# Altium footprint library CA_PFF-SPE-ACS756.PcbLib: 1 footprints
Each footprint in its own frame and in the unit in brackets; x right, y up, seen from the top. Pads: shape width x height; smd on the part's side, far side on the other; paste and mask are expansions set on the pad; w line width, h text height; cw(c..) or ccw(c..) is an arc to the next point about the centre after c.
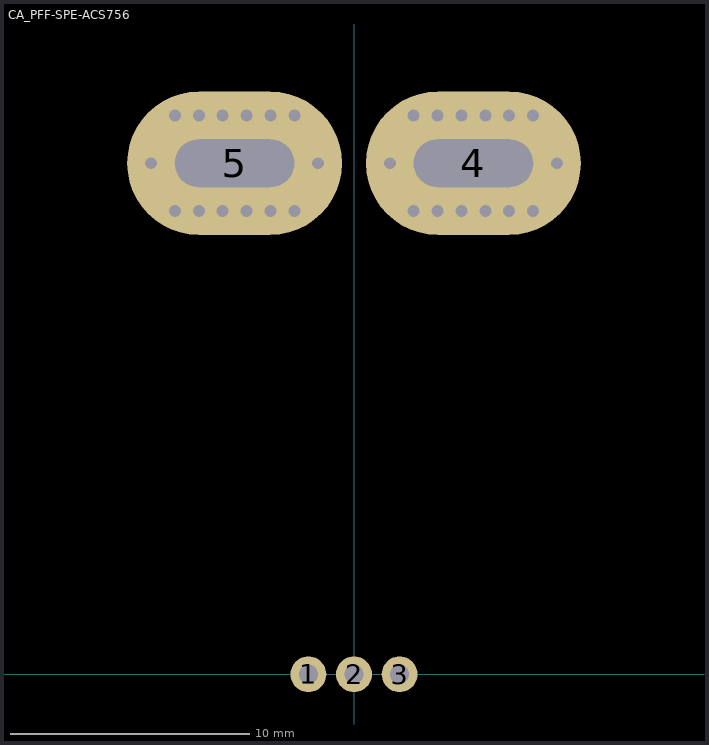
[diagram p0: the footprint, top view; thin cyan lines are the x and y axes]

## CA_PFF-SPE-ACS756 [mm]
height 1.9
pads (5):
  round 1.5 hole 0.8: 1(-1.91,0) 2(0,0) 3(1.91,0)
  rrect100% 9x6 hole 2 slot 5 at 0 deg: 4(5,21.4) 5(-5,21.4)
via -6.5,23.4 diameter 0.6 hole 0.5
via -4.5,23.4 diameter 0.6 hole 0.5
via -2.5,23.4 diameter 0.6 hole 0.5
via -7.5,23.4 diameter 0.6 hole 0.5
via -5.5,23.4 diameter 0.6 hole 0.5
via -3.5,23.4 diameter 0.6 hole 0.5
via -3.5,19.4 diameter 0.6 hole 0.5
via -5.5,19.4 diameter 0.6 hole 0.5
via -7.5,19.4 diameter 0.6 hole 0.5
via -2.5,19.4 diameter 0.6 hole 0.5
via -4.5,19.4 diameter 0.6 hole 0.5
via -6.5,19.4 diameter 0.6 hole 0.5
via -1.5,21.4 diameter 0.6 hole 0.5
via -8.5,21.4 diameter 0.6 hole 0.5
via 1.5,21.4 diameter 0.6 hole 0.5
via 8.5,21.4 diameter 0.6 hole 0.5
via 3.5,19.4 diameter 0.6 hole 0.5
via 5.5,19.4 diameter 0.6 hole 0.5
via 7.5,19.4 diameter 0.6 hole 0.5
via 2.5,19.4 diameter 0.6 hole 0.5
via 4.5,19.4 diameter 0.6 hole 0.5
via 6.5,19.4 diameter 0.6 hole 0.5
via 6.5,23.4 diameter 0.6 hole 0.5
via 4.5,23.4 diameter 0.6 hole 0.5
via 2.5,23.4 diameter 0.6 hole 0.5
via 7.5,23.4 diameter 0.6 hole 0.5
via 5.5,23.4 diameter 0.6 hole 0.5
via 3.5,23.4 diameter 0.6 hole 0.5
3D body: height 7, standoff -3.51, extent -7,-0.6 7,22.222